# Altium integrated library Linear Technology Power Management Switching Regulator LTC1174-LTC3901.IntLib: 2647 symbols (part 242 of 364)
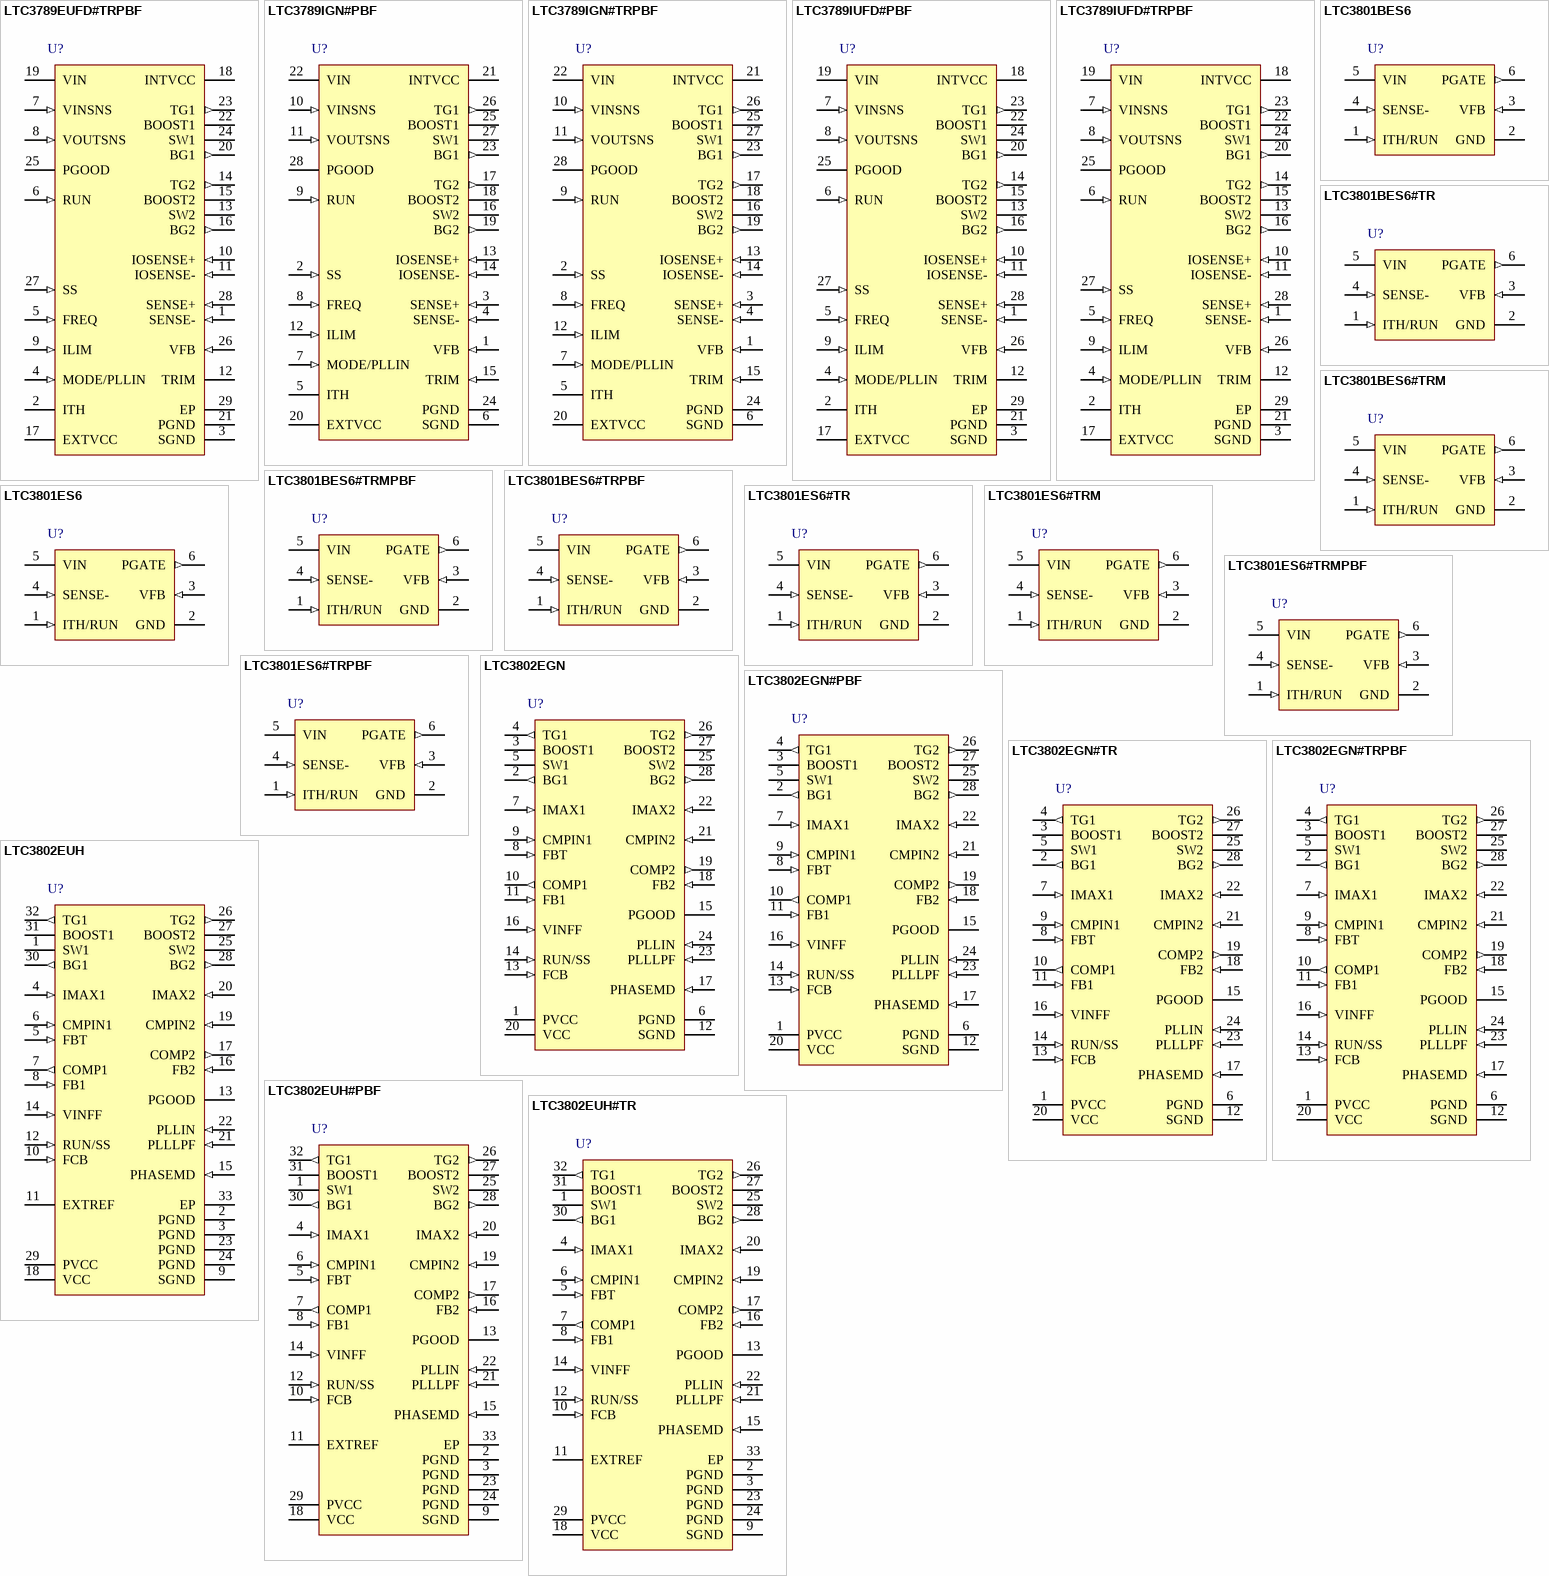
[diagram p240: symbols LTC3789EUFD#TRPBF to LTC3802EUH#TR]

## LTC3789IUFD#TRPBF
designator U?
High Efficiency, Synchronous, 4-Switch Buck-Boost Controller, 28-pin QFN (UFD-28), -40 to 125 degC, Pb-Free, Tape and Reel; Manufacturer: Linear Technology; PartNumber: LTC3789IUFD#TRPBF; Frequency Sync Range: 200kHz - 600kHz; Number of Outputs: 1; DatasheetVersion: Rev. A; PackageVersion: Rev. B, 06/2010; PackageReference: UFD-28; PackageDescription: 28-Pin Plastic QFN, Body 5 x 4 mm, Pitch 0.5 mm; Supplier 1: Digi-Key; Supplier Part Number 1: LTC3789IUFD#TRPBF-ND; Supplier 2: Newark; Supplier Part Number 2: 24T0459; Packing: Tape and Reel; RoHS: TRUE; Mounting Technology: Surface Mount; Code_JEDEC: MO-220; ComponentLink1Description: Manufacturer URL; ComponentLink1URL: http://www.linear.com/; ComponentLink2Description: Datasheet; ComponentLink2URL: http://cds.linear.com/docs/en/datasheet/3789fa.pdf; ComponentLink3Description: Package Specification; ComponentLink3URL: http://cds.linear.com/docs/en/packaging/QFN_28_05-08-1712.pdf
footprint LT-UFD-28_N (QFN, 28-Leads, Body 5.1x4.1mm, Pitch 0.5mm, Thermal Pad 3.65x2.65mm, IPC Medium Density)
footprint LT-UFD-28_L (QFN, 28-Leads, Body 5.1x4.1mm, Pitch 0.5mm, Thermal Pad 3.65x2.65mm, IPC High Density)
footprint LT-UFD-28_M (QFN, 28-Leads, Body 5.1x4.1mm, Pitch 0.5mm, Thermal Pad 3.65x2.65mm, IPC Low Density)
pins: 1 SENSE- (in) "The (-) Input to the Current Sense  Comparator.", 2 ITH "Error Amplifier Output and Switching Regulator Compensation Point. The channel’s  current comparatortrip pointincreaseswith this control voltage.", 3 SGND (power) "Small Signal Ground. Must be routed separately from high current grounds to the common (-) terminals of the CIN capacitors. In the QFN package, the exposed pad is SGND. It must be soldered to PCB ground for rated thermal (See Datasheet)", 4 MODE/PLLIN (in) "Mode Selection or External Synchronization Input to PhaseDetector. This is a dualpurpose pin. When external frequency synchronization is not used, this pin selects the operating mode. The pin can be tied to SGND or INTVCC. (See Datasheet)", 5 FREQ (in) "FrequencySetPin. Thereis a precision 10uA current flowing out of this pin. A resistor to ground  sets a voltage which, in turn, programs the frequency.  Alternatively, this pin can be driven with a DC voltage to  vary the (See Datasheet)", 6 RUN (in) "Run Control Input. Forcing the pin  below 0.5V shuts down the controller, reducing quies-  cent current. There are 1.2uA pull-up currents for this  pin. Once the RUN pin rises above 1.22V, the IC is turned  on, and an (See Datasheet)", 7 VINSNS (in) "VIN Sense Input to the Buck-Boost  Transition Comparator. Connect this pin to the drain of the  top N-channel MOSFET on the input side.", 8 VOUTSNS (in) "VOUT Sense Input to the BuckBoost Transition Comparator. Connect this pin to the drain  of the top N-channel MOSFET on the output side.", 9 ILIM (in) "Input/Output Average Current Sense Range Input. This pin tied to SGND, INTVCC or  left floating, sets the maximum average current sense  threshold.", 10 IOSENSE+ (in) "The (+) Input to the Input/Output  Average Current Sense Amplifier", 11 IOSENSE- (in) "The (-) Input to the Input/Output  Average Current Sense Amplifier.", 12 TRIM (power) "Tie this pin to GND for normal  operation. Do not allow this pin to float.", 13 SW2 "Switch Node Connections to Inductors. Voltage swing at the SW1  pin is from a Schottky diode (external) voltage drop below ground to VIN. Voltage swing at the SW2 pin is from a Schottky diode voltage drop below ground to V (See Datasheet)", 14 TG2 (out) "High Current Gate Drives for Top N-Channel MOSFETs. These are the outputs of floating drivers with a voltage swing equal to INTVCC - 0.5V superimposed on the switch node voltage SW.", 15 BOOST2 "Bootstrapped Supplies to the Top Side Floating Drivers. Capacitors are connected between the BOOST and SW pins and Schottkydiodes are tiedbetweentheBOOSTandINTVCC pins. Voltage swing at the BOOST1 pin is from INTVCC to (VIN (See Datasheet)", 16 BG2 (out) "High Current Gate Drives for Bottom (Synchronous) N-Channel MOSFETs. Voltage swing at these pins is from ground to  INTVCC.", 17 EXTVCC (power) "External Power Input to an  Internal LDO Connected to INTVCC. This LDO supplies  INTVCC power, bypassing the internal LDO powered from  VIN whenever EXTVCC is higher than 4.8V. See EXTVCC Connection in the Applications (See Datasheet)", 18 INTVCC (power) "Output of the Internal Linear Low  Dropout Regulator. The driver and control circuits are  powered from this voltage source. Must be bypassed to  powergroundwith a minimumof 4.7uF tantalum, ceramic,  or other low ESR (See Datasheet)", 19 VIN (power) "Main Supply Pin. A bypass capa-  citor should be tied between this pin and the signal  ground pin.", 20 BG1 (out) "High Current Gate Drives for Bottom (Synchronous) N-Channel MOSFETs. Voltage swing at these pins is from ground to  INTVCC.", 21 PGND (power) "Driver Power Ground. Connects  to COUT and RSENSE (-) terminal(s) of CIN", 22 BOOST1 "Bootstrapped Supplies to the Top Side Floating Drivers. Capacitors are connected between the BOOST and SW pins and Schottkydiodes are tiedbetweentheBOOSTandINTVCC pins. Voltage swing at the BOOST1 pin is from INTVCC to (VIN (See Datasheet)", 23 TG1 (out) "High Current Gate Drives for Top N-Channel MOSFETs. These are the outputs of floating drivers with a voltage swing equal to INTVCC - 0.5V superimposed on the switch node voltage SW.", 24 SW1 "Switch Node Connections to Inductors. Voltage swing at the SW1  pin is from a Schottky diode (external) voltage drop below ground to VIN. Voltage swing at the SW2 pin is from a Schottky diode voltage drop below ground to V (See Datasheet)", 25 PGOOD (oc) "Open-Drain Logic Output.  PGOOD is pulled to groundwhen the voltage on the VFB pin is notwithin +/-10% ofits regulationwindow, afterthe internal 20us power-bad mask timer expires.", 26 VFB (in) "Error Amplifier Feedback Pin. Receives  the feedback voltage for the controller from an external  resistive divider across the output.", 27 SS (in) "ExternalSoft-StartInput. TheLTC3789 regulates the VFB voltage to the smaller of 0.8V or the voltage on the SS pin. A internal 3uA pull-up current source is connected to this pin. A capacitor to ground at this pin sets the (See Datasheet)", 28 SENSE+ (in) "The (+) Input to the Current Sense  Comparator. The ITH pin voltage and controlled offsets  between the SENSE-  and SENSE+  pins, in conjunction  with RSENSE, set the current trip threshold.", 29 EP (power) "Small Signal Ground. Must be routed separately from high current grounds to the common (-) terminals of the CIN capacitors. In the QFN package, the exposed pad is SGND. It must be soldered to PCB ground for rated thermal (See Datasheet)"

## LTC3801BES6
designator U?
Micropower Constant Frequency Step-Down DC/DC Controller, No Burst Mode, 6-pin SOT23 (S6-6), -40 to 85 degC; Manufacturer: Linear Technology; PartNumber: LTC3801BES6; Number of Outputs: 1; PackageVersion: Jun-10; PackageReference: S6-6; PackageDescription: 6-Pin Plastic TSOT-23, Body 2.9 x 1.63 mm, Pitch 0.95 mm; RoHS: FALSE; Mounting Technology: Surface Mount; Code_JEDEC: MO-193; ComponentLink1Description: Manufacturer URL; ComponentLink1URL: http://www.linear.com/; ComponentLink2Description: Datasheet; ComponentLink2URL: http://cds.linear.com/docs/en/datasheet/3801fs.pdf; ComponentLink3Description: Package Specification; ComponentLink3URL: http://cds.linear.com/docs/en/packaging/SOT_6_05-08-1636.pdf
footprint LT-S6-6-TSOT-23_N (SOT23, 6-Leads, Body 2.9x1.75mm, Pitch 0.95mm, IPC Medium Density)
footprint LT-S6-6-TSOT-23_L (SOT23, 6-Leads, Body 2.9x1.75mm, Pitch 0.95mm, IPC High Density)
footprint LT-S6-6-TSOT-23_M (SOT23, 6-Leads, Body 2.9x1.75mm, Pitch 0.95mm, IPC Low Density)
pins: 1 ITH/RUN (in), 2 GND (power) "Ground Pin.", 3 VFB (in), 4 SENSE- (in), 5 VIN (power), 6 PGATE (out) "Gate Drive for the External P-Channel MOSFET. This pin swings from 0V to VIN."

## LTC3801BES6#TR
designator U?
Micropower Constant Frequency Step-Down DC/DC Controller, No Burst Mode, 6-pin SOT23 (S6-6), -40 to 85 degC, Pb-Free, Tape and Reel; Manufacturer: Linear Technology; PartNumber: LTC3801BES6#TR; Number of Outputs: 1; PackageVersion: Jun-10; PackageReference: S6-6; PackageDescription: 6-Pin Plastic TSOT-23, Body 2.9 x 1.63 mm, Pitch 0.95 mm; Supplier 1: Digi-Key; Supplier Part Number 1: LTC3801BES6#TR-ND; Packing: Tape and Reel; RoHS: FALSE; Mounting Technology: Surface Mount; Code_JEDEC: MO-193; ComponentLink1Description: Manufacturer URL; ComponentLink1URL: http://www.linear.com/; ComponentLink2Description: Datasheet; ComponentLink2URL: http://cds.linear.com/docs/en/datasheet/3801fs.pdf; ComponentLink3Description: Package Specification; ComponentLink3URL: http://cds.linear.com/docs/en/packaging/SOT_6_05-08-1636.pdf
footprint LT-S6-6-TSOT-23_N (SOT23, 6-Leads, Body 2.9x1.75mm, Pitch 0.95mm, IPC Medium Density)
footprint LT-S6-6-TSOT-23_L (SOT23, 6-Leads, Body 2.9x1.75mm, Pitch 0.95mm, IPC High Density)
footprint LT-S6-6-TSOT-23_M (SOT23, 6-Leads, Body 2.9x1.75mm, Pitch 0.95mm, IPC Low Density)
pins: 1 ITH/RUN (in), 2 GND (power) "Ground Pin.", 3 VFB (in), 4 SENSE- (in), 5 VIN (power), 6 PGATE (out) "Gate Drive for the External P-Channel MOSFET. This pin swings from 0V to VIN."

## LTC3801BES6#TRM
designator U?
Micropower Constant Frequency Step-Down DC/DC Controller, No Burst Mode, 6-pin SOT23 (S6-6), -40 to 85 degC, Mini Tape and Reel; Manufacturer: Linear Technology; PartNumber: LTC3801BES6#TRM; Number of Outputs: 1; PackageVersion: Jun-10; PackageReference: S6-6; PackageDescription: 6-Pin Plastic TSOT-23, Body 2.9 x 1.63 mm, Pitch 0.95 mm; Supplier 1: Digi-Key; Supplier Part Number 1: LTC3801BES6#TRM-ND; Packing: Mini Tape and Reel; RoHS: FALSE; Mounting Technology: Surface Mount; Code_JEDEC: MO-193; ComponentLink1Description: Manufacturer URL; ComponentLink1URL: http://www.linear.com/; ComponentLink2Description: Datasheet; ComponentLink2URL: http://cds.linear.com/docs/en/datasheet/3801fs.pdf; ComponentLink3Description: Package Specification; ComponentLink3URL: http://cds.linear.com/docs/en/packaging/SOT_6_05-08-1636.pdf
footprint LT-S6-6-TSOT-23_N (SOT23, 6-Leads, Body 2.9x1.75mm, Pitch 0.95mm, IPC Medium Density)
footprint LT-S6-6-TSOT-23_L (SOT23, 6-Leads, Body 2.9x1.75mm, Pitch 0.95mm, IPC High Density)
footprint LT-S6-6-TSOT-23_M (SOT23, 6-Leads, Body 2.9x1.75mm, Pitch 0.95mm, IPC Low Density)
pins: 1 ITH/RUN (in), 2 GND (power) "Ground Pin.", 3 VFB (in), 4 SENSE- (in), 5 VIN (power), 6 PGATE (out) "Gate Drive for the External P-Channel MOSFET. This pin swings from 0V to VIN."

## LTC3801BES6#TRMPBF
designator U?
Micropower Constant Frequency Step-Down DC/DC Controller, No Burst Mode, 6-pin SOT23 (S6-6), -40 to 85 degC, Pb-Free, Mini Tape and Reel; Manufacturer: Linear Technology; PartNumber: LTC3801BES6#TRMPBF; Number of Outputs: 1; PackageVersion: Jun-10; PackageReference: S6-6; PackageDescription: 6-Pin Plastic TSOT-23, Body 2.9 x 1.63 mm, Pitch 0.95 mm; Supplier 1: Digi-Key; Supplier Part Number 1: LTC3801BES6#TRMPBF-ND; Packing: Mini Tape and Reel; RoHS: TRUE; Mounting Technology: Surface Mount; Code_JEDEC: MO-193; ComponentLink1Description: Manufacturer URL; ComponentLink1URL: http://www.linear.com/; ComponentLink2Description: Datasheet; ComponentLink2URL: http://cds.linear.com/docs/en/datasheet/3801fs.pdf; ComponentLink3Description: Package Specification; ComponentLink3URL: http://cds.linear.com/docs/en/packaging/SOT_6_05-08-1636.pdf
footprint LT-S6-6-TSOT-23_N (SOT23, 6-Leads, Body 2.9x1.75mm, Pitch 0.95mm, IPC Medium Density)
footprint LT-S6-6-TSOT-23_L (SOT23, 6-Leads, Body 2.9x1.75mm, Pitch 0.95mm, IPC High Density)
footprint LT-S6-6-TSOT-23_M (SOT23, 6-Leads, Body 2.9x1.75mm, Pitch 0.95mm, IPC Low Density)
pins: 1 ITH/RUN (in), 2 GND (power) "Ground Pin.", 3 VFB (in), 4 SENSE- (in), 5 VIN (power), 6 PGATE (out) "Gate Drive for the External P-Channel MOSFET. This pin swings from 0V to VIN."

## LTC3801BES6#TRPBF
designator U?
Micropower Constant Frequency Step-Down DC/DC Controller, No Burst Mode, 6-pin SOT23 (S6-6), -40 to 85 degC, Pb-Free, Tape and Reel; Manufacturer: Linear Technology; PartNumber: LTC3801BES6#TRPBF; Number of Outputs: 1; PackageVersion: Jun-10; PackageReference: S6-6; PackageDescription: 6-Pin Plastic TSOT-23, Body 2.9 x 1.63 mm, Pitch 0.95 mm; Supplier 1: Digi-Key; Supplier Part Number 1: LTC3801BES6#TRPBF-ND; Packing: Tape and Reel; RoHS: TRUE; Mounting Technology: Surface Mount; Code_JEDEC: MO-193; ComponentLink1Description: Manufacturer URL; ComponentLink1URL: http://www.linear.com/; ComponentLink2Description: Datasheet; ComponentLink2URL: http://cds.linear.com/docs/en/datasheet/3801fs.pdf; ComponentLink3Description: Package Specification; ComponentLink3URL: http://cds.linear.com/docs/en/packaging/SOT_6_05-08-1636.pdf
footprint LT-S6-6-TSOT-23_N (SOT23, 6-Leads, Body 2.9x1.75mm, Pitch 0.95mm, IPC Medium Density)
footprint LT-S6-6-TSOT-23_L (SOT23, 6-Leads, Body 2.9x1.75mm, Pitch 0.95mm, IPC High Density)
footprint LT-S6-6-TSOT-23_M (SOT23, 6-Leads, Body 2.9x1.75mm, Pitch 0.95mm, IPC Low Density)
pins: 1 ITH/RUN (in), 2 GND (power) "Ground Pin.", 3 VFB (in), 4 SENSE- (in), 5 VIN (power), 6 PGATE (out) "Gate Drive for the External P-Channel MOSFET. This pin swings from 0V to VIN."

## LTC3801ES6
designator U?
Micropower Constant Frequency Step-Down DC/DC Controller, 6-pin SOT23 (S6-6), -40 to 85 degC; Manufacturer: Linear Technology; PartNumber: LTC3801ES6; Number of Outputs: 1; PackageVersion: Jun-10; PackageReference: S6-6; PackageDescription: 6-Pin Plastic TSOT-23, Body 2.9 x 1.63 mm, Pitch 0.95 mm; RoHS: FALSE; Mounting Technology: Surface Mount; Code_JEDEC: MO-193; ComponentLink1Description: Manufacturer URL; ComponentLink1URL: http://www.linear.com/; ComponentLink2Description: Datasheet; ComponentLink2URL: http://cds.linear.com/docs/en/datasheet/3801fs.pdf; ComponentLink3Description: Package Specification; ComponentLink3URL: http://cds.linear.com/docs/en/packaging/SOT_6_05-08-1636.pdf
footprint LT-S6-6-TSOT-23_N (SOT23, 6-Leads, Body 2.9x1.75mm, Pitch 0.95mm, IPC Medium Density)
footprint LT-S6-6-TSOT-23_L (SOT23, 6-Leads, Body 2.9x1.75mm, Pitch 0.95mm, IPC High Density)
footprint LT-S6-6-TSOT-23_M (SOT23, 6-Leads, Body 2.9x1.75mm, Pitch 0.95mm, IPC Low Density)
pins: 1 ITH/RUN (in), 2 GND (power) "Ground Pin.", 3 VFB (in), 4 SENSE- (in), 5 VIN (power), 6 PGATE (out) "Gate Drive for the External P-Channel MOSFET. This pin swings from 0V to VIN."

## LTC3801ES6#TR
designator U?
Micropower Constant Frequency Step-Down DC/DC Controller, 6-pin SOT23 (S6-6), -40 to 85 degC, Pb-Free, Tape and Reel; Manufacturer: Linear Technology; PartNumber: LTC3801ES6#TR; Number of Outputs: 1; PackageVersion: Jun-10; PackageReference: S6-6; PackageDescription: 6-Pin Plastic TSOT-23, Body 2.9 x 1.63 mm, Pitch 0.95 mm; Supplier 1: Digi-Key; Supplier Part Number 1: LTC3801ES6#TR-ND; Packing: Tape and Reel; RoHS: FALSE; Mounting Technology: Surface Mount; Code_JEDEC: MO-193; ComponentLink1Description: Manufacturer URL; ComponentLink1URL: http://www.linear.com/; ComponentLink2Description: Datasheet; ComponentLink2URL: http://cds.linear.com/docs/en/datasheet/3801fs.pdf; ComponentLink3Description: Package Specification; ComponentLink3URL: http://cds.linear.com/docs/en/packaging/SOT_6_05-08-1636.pdf
footprint LT-S6-6-TSOT-23_N (SOT23, 6-Leads, Body 2.9x1.75mm, Pitch 0.95mm, IPC Medium Density)
footprint LT-S6-6-TSOT-23_L (SOT23, 6-Leads, Body 2.9x1.75mm, Pitch 0.95mm, IPC High Density)
footprint LT-S6-6-TSOT-23_M (SOT23, 6-Leads, Body 2.9x1.75mm, Pitch 0.95mm, IPC Low Density)
pins: 1 ITH/RUN (in), 2 GND (power) "Ground Pin.", 3 VFB (in), 4 SENSE- (in), 5 VIN (power), 6 PGATE (out) "Gate Drive for the External P-Channel MOSFET. This pin swings from 0V to VIN."

## LTC3801ES6#TRM
designator U?
Micropower Constant Frequency Step-Down DC/DC Controller, 6-pin SOT23 (S6-6), -40 to 85 degC, Mini Tape and Reel; Manufacturer: Linear Technology; PartNumber: LTC3801ES6#TRM; Number of Outputs: 1; PackageVersion: Jun-10; PackageReference: S6-6; PackageDescription: 6-Pin Plastic TSOT-23, Body 2.9 x 1.63 mm, Pitch 0.95 mm; Supplier 1: Digi-Key; Supplier Part Number 1: LTC3801ES6#TRM-ND; Packing: Mini Tape and Reel; RoHS: FALSE; Mounting Technology: Surface Mount; Code_JEDEC: MO-193; ComponentLink1Description: Manufacturer URL; ComponentLink1URL: http://www.linear.com/; ComponentLink2Description: Datasheet; ComponentLink2URL: http://cds.linear.com/docs/en/datasheet/3801fs.pdf; ComponentLink3Description: Package Specification; ComponentLink3URL: http://cds.linear.com/docs/en/packaging/SOT_6_05-08-1636.pdf
footprint LT-S6-6-TSOT-23_N (SOT23, 6-Leads, Body 2.9x1.75mm, Pitch 0.95mm, IPC Medium Density)
footprint LT-S6-6-TSOT-23_L (SOT23, 6-Leads, Body 2.9x1.75mm, Pitch 0.95mm, IPC High Density)
footprint LT-S6-6-TSOT-23_M (SOT23, 6-Leads, Body 2.9x1.75mm, Pitch 0.95mm, IPC Low Density)
pins: 1 ITH/RUN (in), 2 GND (power) "Ground Pin.", 3 VFB (in), 4 SENSE- (in), 5 VIN (power), 6 PGATE (out) "Gate Drive for the External P-Channel MOSFET. This pin swings from 0V to VIN."

## LTC3801ES6#TRMPBF
designator U?
Micropower Constant Frequency Step-Down DC/DC Controller, 6-pin SOT23 (S6-6), -40 to 85 degC, Pb-Free, Mini Tape and Reel; Manufacturer: Linear Technology; PartNumber: LTC3801ES6#TRMPBF; Number of Outputs: 1; PackageVersion: Jun-10; PackageReference: S6-6; PackageDescription: 6-Pin Plastic TSOT-23, Body 2.9 x 1.63 mm, Pitch 0.95 mm; Supplier 1: Digi-Key; Supplier Part Number 1: LTC3801ES6#TRMPBF-ND; Packing: Mini Tape and Reel; RoHS: TRUE; Mounting Technology: Surface Mount; Code_JEDEC: MO-193; ComponentLink1Description: Manufacturer URL; ComponentLink1URL: http://www.linear.com/; ComponentLink2Description: Datasheet; ComponentLink2URL: http://cds.linear.com/docs/en/datasheet/3801fs.pdf; ComponentLink3Description: Package Specification; ComponentLink3URL: http://cds.linear.com/docs/en/packaging/SOT_6_05-08-1636.pdf
footprint LT-S6-6-TSOT-23_N (SOT23, 6-Leads, Body 2.9x1.75mm, Pitch 0.95mm, IPC Medium Density)
footprint LT-S6-6-TSOT-23_L (SOT23, 6-Leads, Body 2.9x1.75mm, Pitch 0.95mm, IPC High Density)
footprint LT-S6-6-TSOT-23_M (SOT23, 6-Leads, Body 2.9x1.75mm, Pitch 0.95mm, IPC Low Density)
pins: 1 ITH/RUN (in), 2 GND (power) "Ground Pin.", 3 VFB (in), 4 SENSE- (in), 5 VIN (power), 6 PGATE (out) "Gate Drive for the External P-Channel MOSFET. This pin swings from 0V to VIN."

## LTC3801ES6#TRPBF
designator U?
Micropower Constant Frequency Step-Down DC/DC Controller, 6-pin SOT23 (S6-6), -40 to 85 degC, Pb-Free, Tape and Reel; Manufacturer: Linear Technology; PartNumber: LTC3801ES6#TRPBF; Number of Outputs: 1; PackageVersion: Jun-10; PackageReference: S6-6; PackageDescription: 6-Pin Plastic TSOT-23, Body 2.9 x 1.63 mm, Pitch 0.95 mm; Supplier 1: Digi-Key; Supplier Part Number 1: LTC3801ES6#TRPBF-ND; Packing: Tape and Reel; RoHS: TRUE; Mounting Technology: Surface Mount; Code_JEDEC: MO-193; ComponentLink1Description: Manufacturer URL; ComponentLink1URL: http://www.linear.com/; ComponentLink2Description: Datasheet; ComponentLink2URL: http://cds.linear.com/docs/en/datasheet/3801fs.pdf; ComponentLink3Description: Package Specification; ComponentLink3URL: http://cds.linear.com/docs/en/packaging/SOT_6_05-08-1636.pdf
footprint LT-S6-6-TSOT-23_N (SOT23, 6-Leads, Body 2.9x1.75mm, Pitch 0.95mm, IPC Medium Density)
footprint LT-S6-6-TSOT-23_L (SOT23, 6-Leads, Body 2.9x1.75mm, Pitch 0.95mm, IPC High Density)
footprint LT-S6-6-TSOT-23_M (SOT23, 6-Leads, Body 2.9x1.75mm, Pitch 0.95mm, IPC Low Density)
pins: 1 ITH/RUN (in), 2 GND (power) "Ground Pin.", 3 VFB (in), 4 SENSE- (in), 5 VIN (power), 6 PGATE (out) "Gate Drive for the External P-Channel MOSFET. This pin swings from 0V to VIN."

## LTC3802EGN
designator U?
Dual 550 kHz Synchronous 2-Phase DC/DC Controller with Programmable Up / Down Tracking, 28-pin SOP (GN-28), -40 to 85 degC; Manufacturer: Linear Technology; PartNumber: LTC3802EGN; Frequency Sync Range: 330kHz - 750kHz; Number of Outputs: 2; PackageVersion: Rev. B, 03/2012; PackageReference: GN-28; PackageDescription: 28-Pin Plastic SSOP, Body 9.9 x 3.9 mm, Pitch 0.635 mm; RoHS: FALSE; Mounting Technology: Surface Mount; ComponentLink1Description: Manufacturer URL; ComponentLink1URL: http://www.linear.com/; ComponentLink2Description: Datasheet; ComponentLink2URL: http://cds.linear.com/docs/en/datasheet/3802f.pdf; ComponentLink3Description: Package Specification; ComponentLink3URL: http://cds.linear.com/docs/en/packaging/05081641_B_GN28.pdf
footprint LT-GN-28_N (SOP, 28-Leads, Body 9.98x3.98mm, Pitch 0.635mm, IPC Medium Density)
footprint LT-GN-28_L (SOP, 28-Leads, Body 9.98x3.98mm, Pitch 0.635mm, IPC High Density)
footprint LT-GN-28_M (SOP, 28-Leads, Body 9.98x3.98mm, Pitch 0.635mm, IPC Low Density)
pins: 1 PVCC (power) "Driver Power Supply Input. PVCC provides power to the two BG drivers and must be connected to an external voltage high enough to fully turn on the external MOSFETs, QB1 and QB2. PVCC requires at least a 10uF bypass capacitor (See Datasheet)", 2 BG1 (out) "Channel 1 Controller Bottom Gate Drive. The BG1 pin drives the gate of the bottom N-channel synchronous switch MOSFET, QB1. BG1 is designed to drive typically up to 10,000pF of gate capacitance.", 3 BOOST1 "Channel 1 Controller Top Gate Driver Supply. BOOST1 should be bootstrapped to SW1 with a 0.1uF capacitor. An external Schottky diode from PVCC to BOOST1 creates a complete floating chargepumped supply at BOOST1. No other (See Datasheet)", 4 TG1 (out) "Channel 1 Controller Top Gate Drive. The TG1 pin drives the top N-channel MOSFET with a voltage swing equal to PVCC superimposed on the switch node voltage SW1. TG1 is designed to drive typically up to 6000pF of gate (See Datasheet)", 5 SW1 "Channel 1 Controller Switching Node. Connect SW1 to the switching node of the channel 1 converter. When the bottom MOSFET QB1 turns on, the current limit comparator and the burst comparator monitor the voltage at SW1. If the (See Datasheet)", 6 PGND (power) "Power Ground. The BG drivers return to this pin. Connect PGND to a high current ground node in close proximity to the sources of external MOSFETs QB1 and QB2 and the VIN, PVCC and VOUT bypass capacitors.", 7 IMAX1 (in) "Channel 1 Controller Current Limit Set. The IMAX1 pin has an internal 10mA current source pull-up, allowing the current limit and burst comparator threshold to be programmed by a single external resistor to SGND. See Current (See Datasheet)", 8 FBT (in) "Feedback Tracking Input. FBT should be connected through a resistive divider network to VOUT1 to set the channel 1 output slew rate. Upon power-up/-down, the LTC3802 servos FBT and CMPIN2 to the same potential to control the (See Datasheet)", 9 CMPIN1 (in) "Channel 1 Controller Comparators Input. CMPIN1 should be connected through a resistive divider network to VOUT1 to monitor its real time output voltage. To improve transient response, a feedforward capacitor can be added to (See Datasheet)", 10 COMP1 (out) "Channel 1 Controller Error Amplifier Output. The COMP1 pin is connected directly to the channel 1 error amplifier output and the input of the line feedforward circuit. Use an RC network between the COMP1 pin and the FB1 pin (See Datasheet)", 11 FB1 (in) "Channel 1 Controller Error Amplifier Input. FB1 should be connected through a resistive divider network to VOUT1 to set the channel 1 switcher output voltage. Also, connect the channel 1 switcher loop compensation network to (See Datasheet)", 12 SGND (power) "Signal Ground. All the internal low power circuitry returns to the SGND pin. Connect to a low impedance ground, separated from the PGND node. All feedback, compensation and soft-start connections should return to SGND. SGND (See Datasheet)", 13 FCB (in) "Force Continuous Bar. Internally pulled high. When FCB is shorted to GND, the controller forces both converters to maintain continuous synchronous operation regardless of load current.", 14 RUN/SS (in) "Run Control and Soft-Start Input. An internal 7mA current source pull-up and an external capacitor to ground at this pin sets the start-up delaly (approximately 300ms/mF), the output ramp rate and the time delay for soft (See Datasheet)", 15 PGOOD (oc) "Open-Drain Power Good Output. PGOOD is pulled to ground under shutdown condition or when any switcher output voltage is not within +/-10% of its set point .", 16 VINFF (in) "Line Feedforward Compensation Input. Connects to the VIN power supply to provide line feedforward compensation. A change in VIN immediately modulates the input to the PWM comparator and changes the pulse width in an (See Datasheet)", 17 PHASEMD (in) "Phase Selector Input. This pin determines the phase relationships between controller?, controller 2 and the PLLIN signal. When PHASEMD is floating, its value is around 2V, and the internal phaselocked loop synchronizes the(See Datasheet)", 18 FB2 (in) "Channel 2 Controller Error Amplifier Input. See FB1.", 19 COMP2 (out) "Channel 2 Controller Error Amplifier Output. See COMP1.", 20 VCC (power) "Power Supply Input. All the internal circuits except the switcher output drivers are powered from this pin. VCC should be connected to a low noise 5V supply and should be bypassed to SGND with at least a 10uF capacitor in (See Datasheet)", 21 CMPIN2 (in) "Channel 2 Controller Comparators Input. See CMPIN1.", 22 IMAX2 (in) "Channel 2 Controller Current Limit Set. See IMAX1.", 23 PLLLPF (in) "Phase-Locked Loop Lowpass Filter. The phase-locked loop’s lowpass filter is tied to this pin. Alternatively, this pin can be driven with an AC or DC voltage source to vary the frequency of the internal oscillator.", 24 PLLIN (in) "Phase-Locked Loop Input/External Synchronization Input to the Phase Detector. The falling edge of this signal is used for frequency synchronization. When PLLIN floats or shorts to ground, the controllers free run at 550kHz.", 25 SW2 "Channel 2 Controller Switching Node. See SW1.", 26 TG2 (out) "Channel 2 Controller Top Gate Drive. See TG1.", 27 BOOST2 "Channel 2 Controller Top Gate Driver Supply. See BOOST1.", 28 BG2 (out) "Channel 2 Controller Bottom Gate Drive. See BG1."

## LTC3802EGN#PBF
designator U?
Dual 550 kHz Synchronous 2-Phase DC/DC Controller with Programmable Up / Down Tracking, 28-pin SOP (GN-28), -40 to 85 degC, Pb-Free; Manufacturer: Linear Technology; PartNumber: LTC3802EGN#PBF; Frequency Sync Range: 330kHz - 750kHz; Number of Outputs: 2; PackageVersion: Rev. B, 03/2012; PackageReference: GN-28; PackageDescription: 28-Pin Plastic SSOP, Body 9.9 x 3.9 mm, Pitch 0.635 mm; Supplier 1: Digi-Key; Supplier Part Number 1: LTC3802EGN#PBF-ND; Supplier 2: Newark; Supplier Part Number 2: 56M8429; RoHS: TRUE; Mounting Technology: Surface Mount; ComponentLink1Description: Manufacturer URL; ComponentLink1URL: http://www.linear.com/; ComponentLink2Description: Datasheet; ComponentLink2URL: http://cds.linear.com/docs/en/datasheet/3802f.pdf; ComponentLink3Description: Package Specification; ComponentLink3URL: http://cds.linear.com/docs/en/packaging/05081641_B_GN28.pdf
footprint LT-GN-28_N (SOP, 28-Leads, Body 9.98x3.98mm, Pitch 0.635mm, IPC Medium Density)
footprint LT-GN-28_L (SOP, 28-Leads, Body 9.98x3.98mm, Pitch 0.635mm, IPC High Density)
footprint LT-GN-28_M (SOP, 28-Leads, Body 9.98x3.98mm, Pitch 0.635mm, IPC Low Density)
pins: 1 PVCC (power) "Driver Power Supply Input. PVCC provides power to the two BG drivers and must be connected to an external voltage high enough to fully turn on the external MOSFETs, QB1 and QB2. PVCC requires at least a 10uF bypass capacitor (See Datasheet)", 2 BG1 (out) "Channel 1 Controller Bottom Gate Drive. The BG1 pin drives the gate of the bottom N-channel synchronous switch MOSFET, QB1. BG1 is designed to drive typically up to 10,000pF of gate capacitance.", 3 BOOST1 "Channel 1 Controller Top Gate Driver Supply. BOOST1 should be bootstrapped to SW1 with a 0.1uF capacitor. An external Schottky diode from PVCC to BOOST1 creates a complete floating chargepumped supply at BOOST1. No other (See Datasheet)", 4 TG1 (out) "Channel 1 Controller Top Gate Drive. The TG1 pin drives the top N-channel MOSFET with a voltage swing equal to PVCC superimposed on the switch node voltage SW1. TG1 is designed to drive typically up to 6000pF of gate (See Datasheet)", 5 SW1 "Channel 1 Controller Switching Node. Connect SW1 to the switching node of the channel 1 converter. When the bottom MOSFET QB1 turns on, the current limit comparator and the burst comparator monitor the voltage at SW1. If the (See Datasheet)", 6 PGND (power) "Power Ground. The BG drivers return to this pin. Connect PGND to a high current ground node in close proximity to the sources of external MOSFETs QB1 and QB2 and the VIN, PVCC and VOUT bypass capacitors.", 7 IMAX1 (in) "Channel 1 Controller Current Limit Set. The IMAX1 pin has an internal 10mA current source pull-up, allowing the current limit and burst comparator threshold to be programmed by a single external resistor to SGND. See Current (See Datasheet)", 8 FBT (in) "Feedback Tracking Input. FBT should be connected through a resistive divider network to VOUT1 to set the channel 1 output slew rate. Upon power-up/-down, the LTC3802 servos FBT and CMPIN2 to the same potential to control the (See Datasheet)", 9 CMPIN1 (in) "Channel 1 Controller Comparators Input. CMPIN1 should be connected through a resistive divider network to VOUT1 to monitor its real time output voltage. To improve transient response, a feedforward capacitor can be added to (See Datasheet)", 10 COMP1 (out) "Channel 1 Controller Error Amplifier Output. The COMP1 pin is connected directly to the channel 1 error amplifier output and the input of the line feedforward circuit. Use an RC network between the COMP1 pin and the FB1 pin (See Datasheet)", 11 FB1 (in) "Channel 1 Controller Error Amplifier Input. FB1 should be connected through a resistive divider network to VOUT1 to set the channel 1 switcher output voltage. Also, connect the channel 1 switcher loop compensation network to (See Datasheet)", 12 SGND (power) "Signal Ground. All the internal low power circuitry returns to the SGND pin. Connect to a low impedance ground, separated from the PGND node. All feedback, compensation and soft-start connections should return to SGND. SGND (See Datasheet)", 13 FCB (in) "Force Continuous Bar. Internally pulled high. When FCB is shorted to GND, the controller forces both converters to maintain continuous synchronous operation regardless of load current.", 14 RUN/SS (in) "Run Control and Soft-Start Input. An internal 7mA current source pull-up and an external capacitor to ground at this pin sets the start-up delaly (approximately 300ms/mF), the output ramp rate and the time delay for soft (See Datasheet)", 15 PGOOD (oc) "Open-Drain Power Good Output. PGOOD is pulled to ground under shutdown condition or when any switcher output voltage is not within +/-10% of its set point .", 16 VINFF (in) "Line Feedforward Compensation Input. Connects to the VIN power supply to provide line feedforward compensation. A change in VIN immediately modulates the input to the PWM comparator and changes the pulse width in an (See Datasheet)", 17 PHASEMD (in) "Phase Selector Input. This pin determines the phase relationships between controller?, controller 2 and the PLLIN signal. When PHASEMD is floating, its value is around 2V, and the internal phaselocked loop synchronizes the(See Datasheet)", 18 FB2 (in) "Channel 2 Controller Error Amplifier Input. See FB1.", 19 COMP2 (out) "Channel 2 Controller Error Amplifier Output. See COMP1.", 20 VCC (power) "Power Supply Input. All the internal circuits except the switcher output drivers are powered from this pin. VCC should be connected to a low noise 5V supply and should be bypassed to SGND with at least a 10uF capacitor in (See Datasheet)", 21 CMPIN2 (in) "Channel 2 Controller Comparators Input. See CMPIN1.", 22 IMAX2 (in) "Channel 2 Controller Current Limit Set. See IMAX1.", 23 PLLLPF (in) "Phase-Locked Loop Lowpass Filter. The phase-locked loop’s lowpass filter is tied to this pin. Alternatively, this pin can be driven with an AC or DC voltage source to vary the frequency of the internal oscillator.", 24 PLLIN (in) "Phase-Locked Loop Input/External Synchronization Input to the Phase Detector. The falling edge of this signal is used for frequency synchronization. When PLLIN floats or shorts to ground, the controllers free run at 550kHz.", 25 SW2 "Channel 2 Controller Switching Node. See SW1.", 26 TG2 (out) "Channel 2 Controller Top Gate Drive. See TG1.", 27 BOOST2 "Channel 2 Controller Top Gate Driver Supply. See BOOST1.", 28 BG2 (out) "Channel 2 Controller Bottom Gate Drive. See BG1."

## LTC3802EGN#TR
designator U?
Dual 550 kHz Synchronous 2-Phase DC/DC Controller with Programmable Up / Down Tracking, 28-pin SOP (GN-28), -40 to 85 degC, Tape and Reel; Manufacturer: Linear Technology; PartNumber: LTC3802EGN#TR; Frequency Sync Range: 330kHz - 750kHz; Number of Outputs: 2; PackageVersion: Rev. B, 03/2012; PackageReference: GN-28; PackageDescription: 28-Pin Plastic SSOP, Body 9.9 x 3.9 mm, Pitch 0.635 mm; Supplier 1: Digi-Key; Supplier Part Number 1: LTC3802EGN#TR-ND; Packing: Tape and Reel; RoHS: FALSE; Mounting Technology: Surface Mount; ComponentLink1Description: Manufacturer URL; ComponentLink1URL: http://www.linear.com/; ComponentLink2Description: Datasheet; ComponentLink2URL: http://cds.linear.com/docs/en/datasheet/3802f.pdf; ComponentLink3Description: Package Specification; ComponentLink3URL: http://cds.linear.com/docs/en/packaging/05081641_B_GN28.pdf
footprint LT-GN-28_N (SOP, 28-Leads, Body 9.98x3.98mm, Pitch 0.635mm, IPC Medium Density)
footprint LT-GN-28_L (SOP, 28-Leads, Body 9.98x3.98mm, Pitch 0.635mm, IPC High Density)
footprint LT-GN-28_M (SOP, 28-Leads, Body 9.98x3.98mm, Pitch 0.635mm, IPC Low Density)
pins: 1 PVCC (power) "Driver Power Supply Input. PVCC provides power to the two BG drivers and must be connected to an external voltage high enough to fully turn on the external MOSFETs, QB1 and QB2. PVCC requires at least a 10uF bypass capacitor (See Datasheet)", 2 BG1 (out) "Channel 1 Controller Bottom Gate Drive. The BG1 pin drives the gate of the bottom N-channel synchronous switch MOSFET, QB1. BG1 is designed to drive typically up to 10,000pF of gate capacitance.", 3 BOOST1 "Channel 1 Controller Top Gate Driver Supply. BOOST1 should be bootstrapped to SW1 with a 0.1uF capacitor. An external Schottky diode from PVCC to BOOST1 creates a complete floating chargepumped supply at BOOST1. No other (See Datasheet)", 4 TG1 (out) "Channel 1 Controller Top Gate Drive. The TG1 pin drives the top N-channel MOSFET with a voltage swing equal to PVCC superimposed on the switch node voltage SW1. TG1 is designed to drive typically up to 6000pF of gate (See Datasheet)", 5 SW1 "Channel 1 Controller Switching Node. Connect SW1 to the switching node of the channel 1 converter. When the bottom MOSFET QB1 turns on, the current limit comparator and the burst comparator monitor the voltage at SW1. If the (See Datasheet)", 6 PGND (power) "Power Ground. The BG drivers return to this pin. Connect PGND to a high current ground node in close proximity to the sources of external MOSFETs QB1 and QB2 and the VIN, PVCC and VOUT bypass capacitors.", 7 IMAX1 (in) "Channel 1 Controller Current Limit Set. The IMAX1 pin has an internal 10mA current source pull-up, allowing the current limit and burst comparator threshold to be programmed by a single external resistor to SGND. See Current (See Datasheet)", 8 FBT (in) "Feedback Tracking Input. FBT should be connected through a resistive divider network to VOUT1 to set the channel 1 output slew rate. Upon power-up/-down, the LTC3802 servos FBT and CMPIN2 to the same potential to control the (See Datasheet)", 9 CMPIN1 (in) "Channel 1 Controller Comparators Input. CMPIN1 should be connected through a resistive divider network to VOUT1 to monitor its real time output voltage. To improve transient response, a feedforward capacitor can be added to (See Datasheet)", 10 COMP1 (out) "Channel 1 Controller Error Amplifier Output. The COMP1 pin is connected directly to the channel 1 error amplifier output and the input of the line feedforward circuit. Use an RC network between the COMP1 pin and the FB1 pin (See Datasheet)", 11 FB1 (in) "Channel 1 Controller Error Amplifier Input. FB1 should be connected through a resistive divider network to VOUT1 to set the channel 1 switcher output voltage. Also, connect the channel 1 switcher loop compensation network to (See Datasheet)", 12 SGND (power) "Signal Ground. All the internal low power circuitry returns to the SGND pin. Connect to a low impedance ground, separated from the PGND node. All feedback, compensation and soft-start connections should return to SGND. SGND (See Datasheet)", 13 FCB (in) "Force Continuous Bar. Internally pulled high. When FCB is shorted to GND, the controller forces both converters to maintain continuous synchronous operation regardless of load current.", 14 RUN/SS (in) "Run Control and Soft-Start Input. An internal 7mA current source pull-up and an external capacitor to ground at this pin sets the start-up delaly (approximately 300ms/mF), the output ramp rate and the time delay for soft (See Datasheet)", 15 PGOOD (oc) "Open-Drain Power Good Output. PGOOD is pulled to ground under shutdown condition or when any switcher output voltage is not within +/-10% of its set point .", 16 VINFF (in) "Line Feedforward Compensation Input. Connects to the VIN power supply to provide line feedforward compensation. A change in VIN immediately modulates the input to the PWM comparator and changes the pulse width in an (See Datasheet)", 17 PHASEMD (in) "Phase Selector Input. This pin determines the phase relationships between controller?, controller 2 and the PLLIN signal. When PHASEMD is floating, its value is around 2V, and the internal phaselocked loop synchronizes the(See Datasheet)", 18 FB2 (in) "Channel 2 Controller Error Amplifier Input. See FB1.", 19 COMP2 (out) "Channel 2 Controller Error Amplifier Output. See COMP1.", 20 VCC (power) "Power Supply Input. All the internal circuits except the switcher output drivers are powered from this pin. VCC should be connected to a low noise 5V supply and should be bypassed to SGND with at least a 10uF capacitor in (See Datasheet)", 21 CMPIN2 (in) "Channel 2 Controller Comparators Input. See CMPIN1.", 22 IMAX2 (in) "Channel 2 Controller Current Limit Set. See IMAX1.", 23 PLLLPF (in) "Phase-Locked Loop Lowpass Filter. The phase-locked loop’s lowpass filter is tied to this pin. Alternatively, this pin can be driven with an AC or DC voltage source to vary the frequency of the internal oscillator.", 24 PLLIN (in) "Phase-Locked Loop Input/External Synchronization Input to the Phase Detector. The falling edge of this signal is used for frequency synchronization. When PLLIN floats or shorts to ground, the controllers free run at 550kHz.", 25 SW2 "Channel 2 Controller Switching Node. See SW1.", 26 TG2 (out) "Channel 2 Controller Top Gate Drive. See TG1.", 27 BOOST2 "Channel 2 Controller Top Gate Driver Supply. See BOOST1.", 28 BG2 (out) "Channel 2 Controller Bottom Gate Drive. See BG1."

## LTC3802EGN#TRPBF
designator U?
Dual 550 kHz Synchronous 2-Phase DC/DC Controller with Programmable Up / Down Tracking, 28-pin SOP (GN-28), -40 to 85 degC, Pb-Free, Tape and Reel; Manufacturer: Linear Technology; PartNumber: LTC3802EGN#TRPBF; Frequency Sync Range: 330kHz - 750kHz; Number of Outputs: 2; PackageVersion: Rev. B, 03/2012; PackageReference: GN-28; PackageDescription: 28-Pin Plastic SSOP, Body 9.9 x 3.9 mm, Pitch 0.635 mm; Supplier 1: Digi-Key; Supplier Part Number 1: LTC3802EGN#TRPBF-ND; Packing: Tape and Reel; RoHS: TRUE; Mounting Technology: Surface Mount; ComponentLink1Description: Manufacturer URL; ComponentLink1URL: http://www.linear.com/; ComponentLink2Description: Datasheet; ComponentLink2URL: http://cds.linear.com/docs/en/datasheet/3802f.pdf; ComponentLink3Description: Package Specification; ComponentLink3URL: http://cds.linear.com/docs/en/packaging/05081641_B_GN28.pdf
footprint LT-GN-28_N (SOP, 28-Leads, Body 9.98x3.98mm, Pitch 0.635mm, IPC Medium Density)
footprint LT-GN-28_L (SOP, 28-Leads, Body 9.98x3.98mm, Pitch 0.635mm, IPC High Density)
footprint LT-GN-28_M (SOP, 28-Leads, Body 9.98x3.98mm, Pitch 0.635mm, IPC Low Density)
pins: 1 PVCC (power) "Driver Power Supply Input. PVCC provides power to the two BG drivers and must be connected to an external voltage high enough to fully turn on the external MOSFETs, QB1 and QB2. PVCC requires at least a 10uF bypass capacitor (See Datasheet)", 2 BG1 (out) "Channel 1 Controller Bottom Gate Drive. The BG1 pin drives the gate of the bottom N-channel synchronous switch MOSFET, QB1. BG1 is designed to drive typically up to 10,000pF of gate capacitance.", 3 BOOST1 "Channel 1 Controller Top Gate Driver Supply. BOOST1 should be bootstrapped to SW1 with a 0.1uF capacitor. An external Schottky diode from PVCC to BOOST1 creates a complete floating chargepumped supply at BOOST1. No other (See Datasheet)", 4 TG1 (out) "Channel 1 Controller Top Gate Drive. The TG1 pin drives the top N-channel MOSFET with a voltage swing equal to PVCC superimposed on the switch node voltage SW1. TG1 is designed to drive typically up to 6000pF of gate (See Datasheet)", 5 SW1 "Channel 1 Controller Switching Node. Connect SW1 to the switching node of the channel 1 converter. When the bottom MOSFET QB1 turns on, the current limit comparator and the burst comparator monitor the voltage at SW1. If the (See Datasheet)", 6 PGND (power) "Power Ground. The BG drivers return to this pin. Connect PGND to a high current ground node in close proximity to the sources of external MOSFETs QB1 and QB2 and the VIN, PVCC and VOUT bypass capacitors.", 7 IMAX1 (in) "Channel 1 Controller Current Limit Set. The IMAX1 pin has an internal 10mA current source pull-up, allowing the current limit and burst comparator threshold to be programmed by a single external resistor to SGND. See Current (See Datasheet)", 8 FBT (in) "Feedback Tracking Input. FBT should be connected through a resistive divider network to VOUT1 to set the channel 1 output slew rate. Upon power-up/-down, the LTC3802 servos FBT and CMPIN2 to the same potential to control the (See Datasheet)", 9 CMPIN1 (in) "Channel 1 Controller Comparators Input. CMPIN1 should be connected through a resistive divider network to VOUT1 to monitor its real time output voltage. To improve transient response, a feedforward capacitor can be added to (See Datasheet)", 10 COMP1 (out) "Channel 1 Controller Error Amplifier Output. The COMP1 pin is connected directly to the channel 1 error amplifier output and the input of the line feedforward circuit. Use an RC network between the COMP1 pin and the FB1 pin (See Datasheet)", 11 FB1 (in) "Channel 1 Controller Error Amplifier Input. FB1 should be connected through a resistive divider network to VOUT1 to set the channel 1 switcher output voltage. Also, connect the channel 1 switcher loop compensation network to (See Datasheet)", 12 SGND (power) "Signal Ground. All the internal low power circuitry returns to the SGND pin. Connect to a low impedance ground, separated from the PGND node. All feedback, compensation and soft-start connections should return to SGND. SGND (See Datasheet)", 13 FCB (in) "Force Continuous Bar. Internally pulled high. When FCB is shorted to GND, the controller forces both converters to maintain continuous synchronous operation regardless of load current.", 14 RUN/SS (in) "Run Control and Soft-Start Input. An internal 7mA current source pull-up and an external capacitor to ground at this pin sets the start-up delaly (approximately 300ms/mF), the output ramp rate and the time delay for soft (See Datasheet)", 15 PGOOD (oc) "Open-Drain Power Good Output. PGOOD is pulled to ground under shutdown condition or when any switcher output voltage is not within +/-10% of its set point .", 16 VINFF (in) "Line Feedforward Compensation Input. Connects to the VIN power supply to provide line feedforward compensation. A change in VIN immediately modulates the input to the PWM comparator and changes the pulse width in an (See Datasheet)", 17 PHASEMD (in) "Phase Selector Input. This pin determines the phase relationships between controller?, controller 2 and the PLLIN signal. When PHASEMD is floating, its value is around 2V, and the internal phaselocked loop synchronizes the(See Datasheet)", 18 FB2 (in) "Channel 2 Controller Error Amplifier Input. See FB1.", 19 COMP2 (out) "Channel 2 Controller Error Amplifier Output. See COMP1.", 20 VCC (power) "Power Supply Input. All the internal circuits except the switcher output drivers are powered from this pin. VCC should be connected to a low noise 5V supply and should be bypassed to SGND with at least a 10uF capacitor in (See Datasheet)", 21 CMPIN2 (in) "Channel 2 Controller Comparators Input. See CMPIN1.", 22 IMAX2 (in) "Channel 2 Controller Current Limit Set. See IMAX1.", 23 PLLLPF (in) "Phase-Locked Loop Lowpass Filter. The phase-locked loop’s lowpass filter is tied to this pin. Alternatively, this pin can be driven with an AC or DC voltage source to vary the frequency of the internal oscillator.", 24 PLLIN (in) "Phase-Locked Loop Input/External Synchronization Input to the Phase Detector. The falling edge of this signal is used for frequency synchronization. When PLLIN floats or shorts to ground, the controllers free run at 550kHz.", 25 SW2 "Channel 2 Controller Switching Node. See SW1.", 26 TG2 (out) "Channel 2 Controller Top Gate Drive. See TG1.", 27 BOOST2 "Channel 2 Controller Top Gate Driver Supply. See BOOST1.", 28 BG2 (out) "Channel 2 Controller Bottom Gate Drive. See BG1."